# Altium footprint library Serial Memory.PcbLib: 6 footprints
Each footprint in its own frame and in the unit in brackets; x right, y up, seen from the top. Pads: shape width x height; smd on the part's side, far side on the other; paste and mask are expansions set on the pad; w line width, h text height; cw(c..) or ccw(c..) is an arc to the next point about the centre after c.
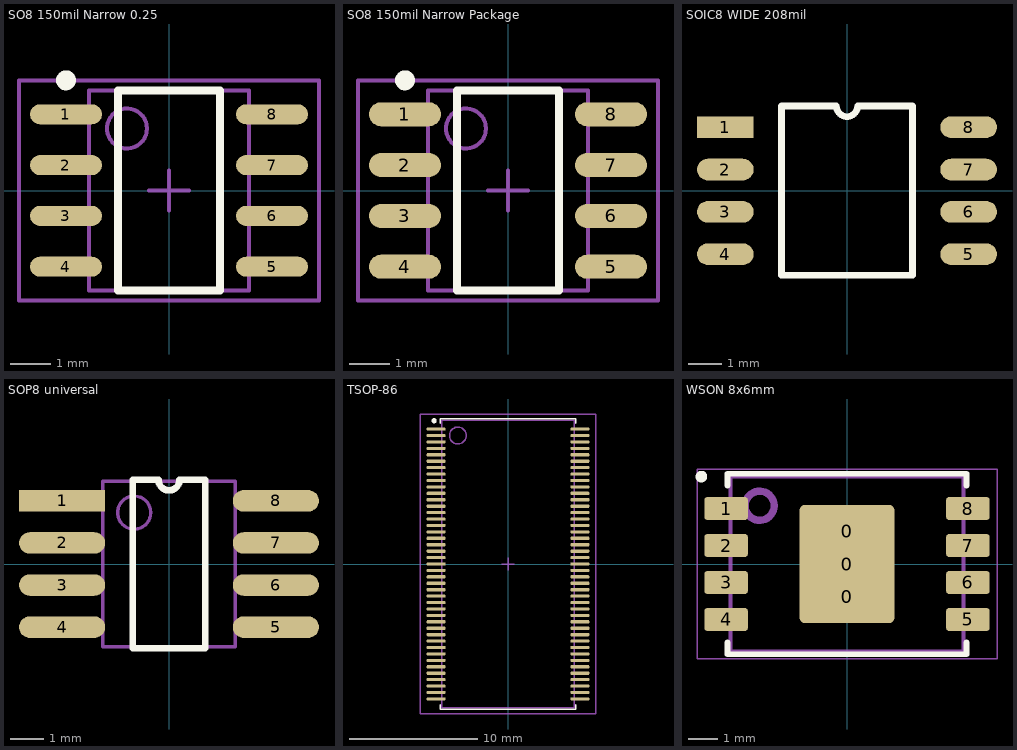
[diagram p0: the footprints below, top view; thin cyan lines are the x and y axes]

## SO8 150mil Narrow 0.25 [mm] "SOIC, 8-Leads, Body 5,0x4,0mm (max), Pitch 1,27mm, IPC Medium Density"
height 1.75
pads (8):
  oval 1.8x0.5 smd: 1(-2.575,1.905) 2(-2.575,0.635) 3(-2.575,-0.635) 4(-2.575,-1.905) 5(2.575,-1.905) 6(2.575,-0.635) 7(2.575,0.635) 8(2.575,1.905)
Top Overlay:
  circle w0.25: c-2.575,2.755 r0.125
  lines w0.2: -1.275,-2.5 -1.275,2.5 1.275,2.5 1.275,-2.5 -1.275,-2.5
Mechanical 13:
  circle w0.1: c-1.05,1.55 r0.5
  lines w0.1: -2,-2.5 -2,2.5 2,2.5 2,-2.5 -2,-2.5
Mechanical 15:
  lines w0.1: -0.5,0 0.5,0 ; 0,-0.5 0,0.5 ; -3.75,-2.75 -3.75,2.75 3.75,2.75 3.75,-2.75 -3.75,-2.75
3D body: height 1.75, standoff -0.01, extent -3.1,-2.5 3.099,2.5

## SO8 150mil Narrow Package [mm] "SOIC, 8-Leads, Body 5,0x4,0mm (max), Pitch 1,27mm, IPC Medium Density"
height 1.75
pads (8):
  oval 1.8x0.6 smd: 1(-2.575,1.905) 2(-2.575,0.635) 3(-2.575,-0.635) 4(-2.575,-1.905) 5(2.575,-1.905) 6(2.575,-0.635) 7(2.575,0.635) 8(2.575,1.905)
Top Overlay:
  circle w0.25: c-2.575,2.755 r0.125
  lines w0.2: -1.275,-2.5 1.275,-2.5 1.275,2.5 -1.275,2.5 -1.275,-2.5
Mechanical 13:
  circle w0.1: c-1.05,1.55 r0.5
  lines w0.1: -2,-2.5 2,-2.5 2,2.5 -2,2.5 -2,-2.5
Mechanical 15:
  lines w0.1: -0.5,0 0.5,0 ; 0,-0.5 0,0.5 ; -3.75,-2.75 3.75,-2.75 3.75,2.75 -3.75,2.75 -3.75,-2.75
3D body: height 1.75, standoff -0.01, extent -3.1,-2.5 3.099,2.5

## SOIC8 WIDE 208mil [mm]
pads (8):
  rect 1.7x0.65 smd: 1(-3.65,1.905)
  oval 1.7x0.65 smd: 2(-3.65,0.635) 3(-3.65,-0.635) 4(-3.65,-1.905) 5(3.65,-1.905) 6(3.65,-0.635) 7(3.65,0.635) 8(3.65,1.905)
Top Overlay:
  lines w0.2: -1.965,-2.54 -1.965,2.54 -0.318,2.54 ccw(c0,2.54) 0.318,2.54 1.965,2.54 1.965,-2.54 -1.965,-2.54
3D body: height 1.7, standoff 0, extent -4.089,-2.418 4.089,2.408

## SOP8 universal [mm]
pads (8):
  rect 2.6x0.65 smd: 1(-3.225,1.905)
  oval 2.6x0.65 smd: 2(-3.225,0.635) 3(-3.225,-0.635) 4(-3.225,-1.905) 5(3.225,-1.905) 6(3.225,-0.635) 7(3.225,0.635) 8(3.225,1.905)
Top Overlay:
  lines w0.2: -1.09,-2.54 1.09,-2.54 1.09,2.54 0.318,2.54 cw(c0,2.54) -0.318,2.54 -1.09,2.54 -1.09,-2.54
Mechanical 13:
  circle w0.1: c-1.05,1.55 r0.5
  lines w0.1: -2,-2.5 -2,2.5 2,2.5 2,-2.5 -2,-2.5
3D body: height 1.75, standoff -0.01, extent -3.099,-2.5 3.1,2.5

## TSOP-86 [mm] "TSOP-86 0.5mm"
height 1.2
pads (86):
  rrect50% 1.45x0.25 smd: 1(-5.6,10.5) 2(-5.6,10) 3(-5.6,9.5) 4(-5.6,9) 5(-5.6,8.5) 6(-5.6,8) 7(-5.6,7.5) 8(-5.6,7) 9(-5.6,6.5) 10(-5.6,6) 11(-5.6,5.5) 12(-5.6,5) 13(-5.6,4.5) 14(-5.6,4) 15(-5.6,3.5) 16(-5.6,3) 17(-5.6,2.5) 18(-5.6,2) 19(-5.6,1.5) 20(-5.6,1) 21(-5.6,0.5) 22(-5.6,0) 23(-5.6,-0.5) 24(-5.6,-1) 25(-5.6,-1.5) 26(-5.6,-2) 27(-5.6,-2.5) 28(-5.6,-3) 29(-5.6,-3.5) 30(-5.6,-4) 31(-5.6,-4.5) 32(-5.6,-5) 33(-5.6,-5.5) 34(-5.6,-6) 35(-5.6,-6.5) 36(-5.6,-7) 37(-5.6,-7.5) 38(-5.6,-8) 39(-5.6,-8.5) 40(-5.6,-9) 41(-5.6,-9.5) 42(-5.6,-10) 43(-5.6,-10.5) 44(5.6,-10.5) 45(5.6,-10) 46(5.6,-9.5) 47(5.6,-9) 48(5.6,-8.5) 49(5.6,-8) 50(5.6,-7.5) 51(5.6,-7) 52(5.6,-6.5) 53(5.6,-6) 54(5.6,-5.5) 55(5.6,-5) 56(5.6,-4.5) 57(5.6,-4) 58(5.6,-3.5) 59(5.6,-3) 60(5.6,-2.5) 61(5.6,-2) 62(5.6,-1.5) 63(5.6,-1) 64(5.6,-0.5) 65(5.6,0) 66(5.6,0.5) 67(5.6,1) 68(5.6,1.5) 69(5.6,2) 70(5.6,2.5) 71(5.6,3) 72(5.6,3.5) 73(5.6,4) 74(5.6,4.5) 75(5.6,5) 76(5.6,5.5) 77(5.6,6) 78(5.6,6.5) 79(5.6,7) 80(5.6,7.5) 81(5.6,8) 82(5.6,8.5) 83(5.6,9) 84(5.6,9.5) 85(5.6,10) 86(5.6,10.5)
Top Overlay:
  circle w0.2: c-5.75,11.15 r0.1
  lines w0.127: -5.275,-10.95 -5.275,-11.3 5.275,-11.3 5.275,-10.95 ; -5.275,10.95 -5.275,11.3 5.275,11.3 5.275,10.95
Mechanical 13:
  circle w0.1: c-3.9,10 r0.654
  lines w0.1: -5.148,-11.18 -5.148,11.18 5.152,11.18 5.152,-11.18 -5.148,-11.18
Mechanical 15:
  lines w0.1: -0.5,0 0.5,0 ; 0,-0.5 0,0.5 ; -6.825,-11.675 6.825,-11.675 6.825,11.675 -6.825,11.675 -6.825,-11.675
3D body: height 1.2, standoff 0, extent -5.148,-11.18 5.152,11.18

## WSON 8x6mm [mm] "WSON 8x6mm"
height 0.8
pads (11):
  rrect20% 2.5x1.7 smd: 0(0,-1.125) 0(0,1.125)
  rrect10% 3.25x4.05 smd paste-5: 0(0,0)
  rrect30% 1.5x0.8 smd: 1(-4.15,1.905) 2(-4.15,0.635) 3(-4.15,-0.635) 4(-4.15,-1.905) 5(4.15,-1.905) 6(4.15,-0.635) 7(4.15,0.635) 8(4.15,1.905)
Top Overlay:
  circle w0.2: c-5,3 r0.1
  lines w0.2: -4.1,-2.7 -4.1,-3.1 4.1,-3.1 4.1,-2.7 ; -4.1,2.7 -4.1,3.1 4.1,3.1 4.1,2.7
Mechanical 13:
  circle w0.254: c-3,2 r0.5
  lines w0.127: -4,-3 4,-3 4,3 -4,3 -4,-3
Mechanical 15:
  lines w0.05: -5.15,-3.25 -5.15,3.25 5.15,3.25 5.15,-3.25 -5.15,-3.25
  lines w0.1: -0.5,0 0.5,0 ; 0,-0.5 0,0.5
3D body: height 0.8, standoff 0, extent -4,-3 4,3